# EAGLE library part ESP12_DEVKIT (library ESP12_DEVKIT)
ESP12 DEVKIT BOARD
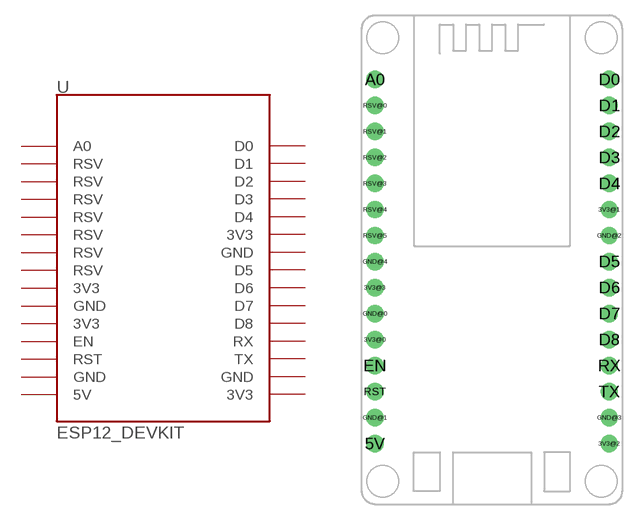
[diagram p0: symbol with the pads of ESP12_DEVKIT; footprint ESP12_DEVKIT]

Designator prefix -

## ESP12_DEVKIT  [ESP12_DEVKIT]
3V3@0  3V3
3V3@1  3V3
3V3@2  3V3
3V3@3  3V3
5V  5V
A0  A0
D0  D0
D1  D1
D2  D2
D3  D3
D4  D4
D5  D5
D6  D6
D7  D7
D8  D8
EN  EN
GND@0  GND
GND@1  GND
GND@2  GND
GND@3  GND
GND@4  RSV
RST  RST
RSV@0  RSV
RSV@1  RSV
RSV@2  RSV
RSV@3  RSV
RSV@4  RSV
RSV@5  RSV
RX  RX
TX  TX

## Footprint ESP12_DEVKIT (pad centres in mm)
ESP12_DEVKIT
drill 0.8 pad 1.7: 3V3@0 -11.43,-7.795; 3V3@1 11.43,4.905; 3V3@2 11.43,-17.955; 3V3@3 -11.43,-2.715; 5V -11.43,-17.955; A0 -11.43,17.605; D0 11.43,17.605; D1 11.43,15.065; D2 11.43,12.525; D3 11.43,9.985; D4 11.43,7.445; D5 11.43,-0.175; D6 11.43,-2.715; D7 11.43,-5.255; D8 11.43,-7.795; EN -11.43,-10.335; GND@0 -11.43,-5.255; GND@1 -11.43,-15.415; GND@2 11.43,2.365; GND@3 11.43,-15.415; GND@4 -11.43,-0.175; RST -11.43,-12.875; RSV@0 -11.43,15.065; RSV@1 -11.43,12.525; RSV@2 -11.43,9.985; RSV@3 -11.43,7.445; RSV@4 -11.43,4.905; RSV@5 -11.43,2.365; RX 11.43,-10.335; TX 11.43,-12.875